# Altium schematic symbol library Capacitors.SchLib: 107 symbols
Pins are listed as number, name and electrical type; pins without a type are passive.

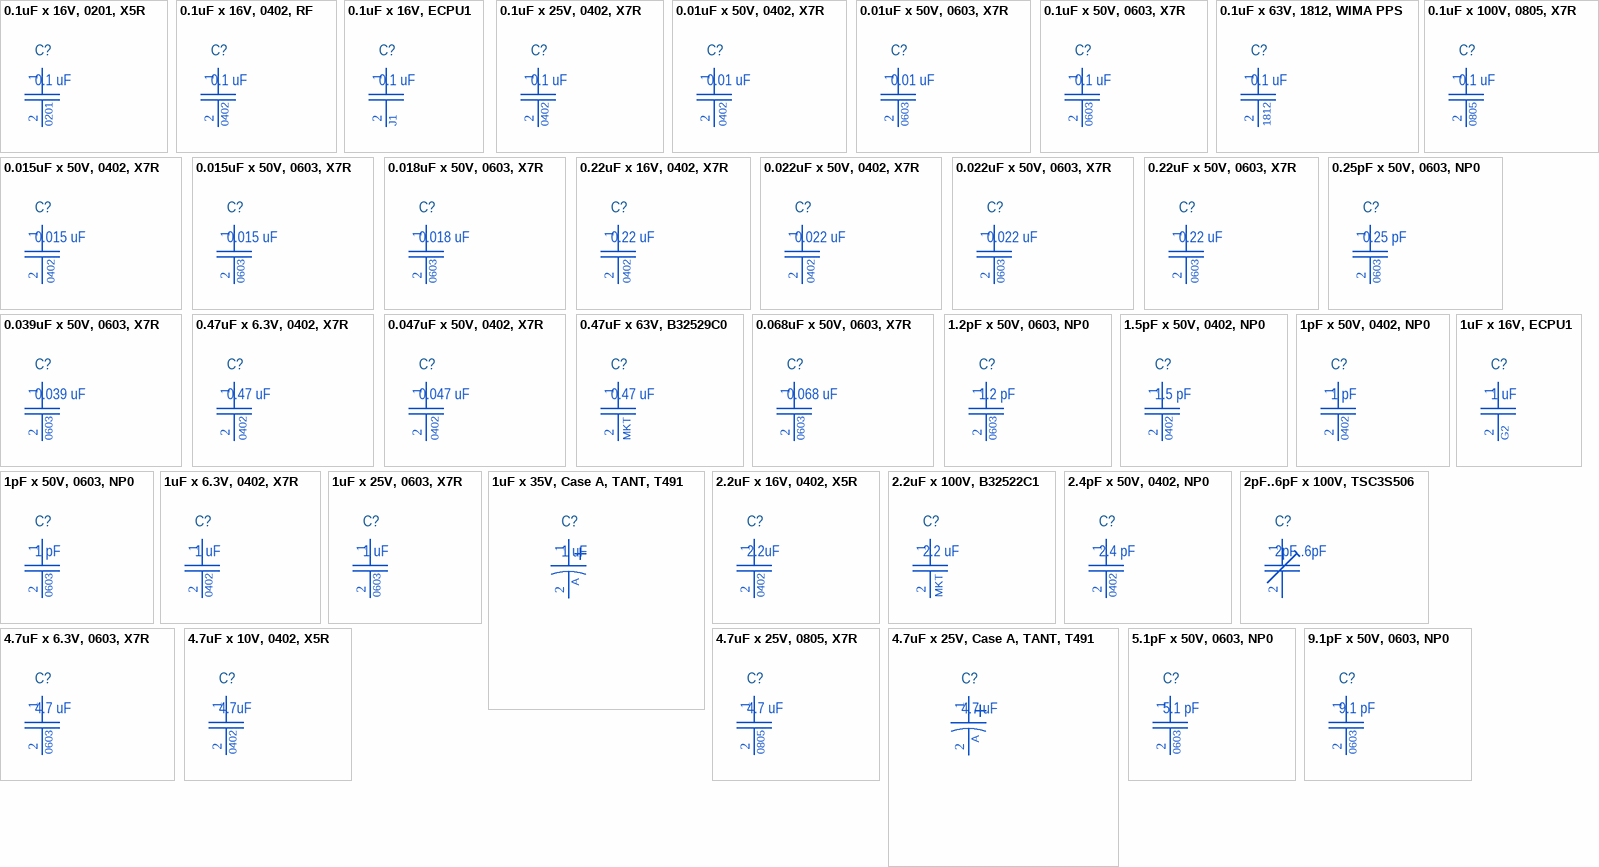
[diagram p0: symbols 0.1uF x 16V, 0201, X5R to 9.1pF x 50V, 0603, NP0]

## 0.1uF x 16V, 0201, X5R
designator C?, comment 0.1 uF  Package: 0201
CERCAP 0201 0.1UF 16V X5R 10%; PartNumber: CL03A104KO3NNNC; Manufacturer: Samsung; AltManufacturer1: CCTC; Alternative1: TCC0201X5R104K160ZT; ItemType: Capacitor; Value: 0.1 uF; Tolerance: ± 10 %; Voltage: 16V; Dielectric: X5R; ItemSubType: Ceramic 0201; Mounting: SMD
footprint C0201_H030_X5R (SMD020106X03MM)
pins: 1, 2

## 0.1uF x 16V, 0402, RF
designator C?, comment 0.1 uF  Package: 0402
RF CAP 0402 16kHz - 40 GHz 0.1UF 16VDC; PartNumber: 560L104YTT; Manufacturer: Kyocera AVX; Tolerance: -20 %, +25%; Voltage: 16V; ItemType: Capacitor; ItemSubType: RF Ceramic 0402; Value: 0.1 uF; Mounting: SMD
footprint ATC560L_H061 (SMD040210X061MM)
pins: 1, 2

## 0.1uF x 16V, ECPU1
designator C?, comment 0.1 uF  Package: J1
ECPU1 0.1UF 16V 20%; PartNumber: ECPU1C104MA5; Manufacturer: Panasonic; Dielectric: Plastic; ItemType: Capacitor; ItemSubType: Stacked Metallized Plastic; Value: 0.1 uF; Tolerance: ± 20 %; Voltage: 16V; Mounting: SMD
footprint ECPU_J1 (Stacked Metallized Plastic Film Chip Capacitor ECPU Series)
pins: 1, 2

## 0.1uF x 25V, 0402, X7R
designator C?, comment 0.1 uF  Package: 0402
CERCAP 0402 0.1UF 25V X7R 10%; PartNumber: CL05B104KA5NNNC; Manufacturer: Samsung; AltManufacturer1: CCTC; Alternative1: TCC0402X7R104K500AT; ItemType: Capacitor; Value: 0.1 uF; Tolerance: ± 10 %; Voltage: 25V; Dielectric: X7R; ItemSubType: Ceramic 0402; Mounting: SMD
footprint C0402_H050_X7R (SMD040210X05MM)
footprint C0402_H050_X7R_0.8 (SMD040210X05MM for BGA with 0.8mm pitch)
pins: 1, 2

## 0.01uF x 50V, 0402, X7R
designator C?, comment 0.01 uF  Package: 0402
CERCAP 0402 0.01UF 50V X7R 5%; PartNumber: CL05B103JB5NNNC; Manufacturer: Samsung; AltManufacturer1: CCTC; Alternative1: TCC0402X7R103J500AT; ItemType: Capacitor; Value: 0.01 uF; Tolerance: ± 5 %; Voltage: 50V; Dielectric: X7R; ItemSubType: Ceramic 0402; Mounting: SMD
footprint C0402_H050_X7R (SMD040210X05MM)
footprint C0402_H050_X7R_0.8 (SMD040210X05MM for BGA with 0.8mm pitch)
pins: 1, 2

## 0.01uF x 50V, 0603, X7R
designator C?, comment 0.01 uF  Package: 0603
CERCAP 0603 0.01UF 50V X7R 5%; PartNumber: CL10B103JB8NNNC; Manufacturer: Samsung; AltManufacturer1: CCTC; Alternative1: TCC0603COG103J500CT; ItemType: Capacitor; Value: 0.01 uF; Tolerance: ± 5 %; Voltage: 50V; Dielectric: X7R; ItemSubType: Ceramic 0603; Mounting: SMD
footprint C0603_H080_X7R (SMD060316X08MM)
pins: 1, 2

## 0.1uF x 50V, 0603, X7R
designator C?, comment 0.1 uF  Package: 0603
CERCAP 0603 0.1UF 50V X7R 10%; PartNumber: CL10B104KB8NNNC; Manufacturer: Samsung; AltManufacturer1: CCTC; Alternative1: TCC0603X7R104K500CT; ItemType: Capacitor; Value: 0.1 uF; Tolerance: ± 10 %; Voltage: 50V; Dielectric: X7R; ItemSubType: Ceramic 0603; Mounting: SMD
footprint C0603_H080_X7R (SMD060316X08MM)
pins: 1, 2

## 0.1uF x 63V, 1812, WIMA PPS
designator C?, comment 0.1 uF  Package: 1812
Metallized Polyphenylene-Sulphide Film Capacitor; PartNumber: SMDIC03100KA00KP00; Manufacturer: WIMA; Tolerance: ± 10 %; Voltage: 63V; Dielectric: PPS; Alternative1: SMDIC03100KA00MP00; Value: 0.1 uF; AltManufacturer1: WIMA; ItemType: Capacitor; ItemSubType: PPS; Mounting: SMD
footprint WIMA_PPS_1812 (WIMA Metallized Polyphenylene-Sulphide Capacitors, Size 1812, H = 3.5mm)
pins: 1, 2

## 0.1uF x 100V, 0805, X7R
designator C?, comment 0.1 uF  Package: 0805
CERCAP 0805 0.1UF 100V X7R 10%; PartNumber: CL21B104KCFNNNE; Manufacturer: Samsung; AltManufacturer1: CCTC; Alternative1: TCC0805X7R104K101DT; ItemType: Capacitor; Value: 0.1 uF; Tolerance: ± 10 %; Voltage: 100V; Dielectric: X7R; ItemSubType: Ceramic 0805; Mounting: SMD
footprint C0805_H125_X7R (SMD080512X20MM)
pins: 1, 2

## 0.015uF x 50V, 0402, X7R
designator C?, comment 0.015 uF  Package: 0402
CERCAP 0402 0.015UF 50V X7R 10%; PartNumber: CL05B153KB5VPNC; Manufacturer: Samsung; AltManufacturer1: CCTC; Alternative1: TCC0402X7R153K500AT; ItemType: Capacitor; Value: 0.015 uF; Tolerance: ± 10 %; Voltage: 50V; Dielectric: X7R; ItemSubType: Ceramic 0402; Mounting: SMD
footprint C0402_H050_X7R (SMD040210X05MM)
footprint C0402_H050_X7R_0.8 (SMD040210X05MM for BGA with 0.8mm pitch)
pins: 1, 2

## 0.015uF x 50V, 0603, X7R
designator C?, comment 0.015 uF  Package: 0603
CERCAP 0603 0.015UF 50V X7R 5%; PartNumber: CL10B153JB8NNNC; Manufacturer: Samsung; AltManufacturer1: Yageo; Alternative1: CC0603JRX7R9BB153; ItemType: Capacitor; Value: 0.015 uF; Tolerance: ± 5 %; Voltage: 50V; Dielectric: X7R; ItemSubType: Ceramic 0603; Mounting: SMD
footprint C0603_H080_X7R (SMD060316X08MM)
pins: 1, 2

## 0.018uF x 50V, 0603, X7R
designator C?, comment 0.018 uF  Package: 0603
CERCAP 0603 0.018UF 50V X7R 10%; PartNumber: CL10B183KB8NNNC; Manufacturer: Samsung; AltManufacturer1: CCTC; Alternative1: TCC0603X7R183K500CT; ItemType: Capacitor; Value: 0.018 uF; Tolerance: ± 10 %; Voltage: 50V; Dielectric: X7R; ItemSubType: Ceramic 0603; Mounting: SMD
footprint C0603_H080_X7R (SMD060316X08MM)
pins: 1, 2

## 0.22uF x 16V, 0402, X7R
designator C?, comment 0.22 uF  Package: 0402
CERCAP 0402 0.22UF 16V X7R 10%; PartNumber: CL05B224KO5NNNC; Manufacturer: Samsung; AltManufacturer1: CCTC; Alternative1: TCC0402X7R224K250AT; ItemType: Capacitor; Value: 0.22 uF; Tolerance: ± 10 %; Voltage: 16V; Dielectric: X7R; ItemSubType: Ceramic 0402; Mounting: SMD
footprint C0402_H050_X7R (SMD040210X05MM)
footprint C0402_H050_X7R_0.8 (SMD040210X05MM for BGA with 0.8mm pitch)
pins: 1, 2

## 0.022uF x 50V, 0402, X7R
designator C?, comment 0.022 uF  Package: 0402
CERCAP 0402 0.022UF 50V X7R 10%; PartNumber: CL05B223KB5NNNC; Manufacturer: Samsung; AltManufacturer1: CCTC; Alternative1: TCC0402X7R223K500AT; ItemType: Capacitor; Value: 0.022 uF; Tolerance: ± 10 %; Voltage: 50V; Dielectric: X7R; ItemSubType: Ceramic 0402; Mounting: SMD
footprint C0402_H050_X7R (SMD040210X05MM)
footprint C0402_H050_X7R_0.8 (SMD040210X05MM for BGA with 0.8mm pitch)
pins: 1, 2

## 0.022uF x 50V, 0603, X7R
designator C?, comment 0.022 uF  Package: 0603
CERCAP 0603 0.022UF 50V X7R 10%; PartNumber: CL10B223KB8NNNC; Manufacturer: Samsung; AltManufacturer1: CCTC; Alternative1: TCC0603X7R223K500CT; ItemType: Capacitor; Value: 0.022 uF; Tolerance: ± 10 %; Voltage: 50V; Dielectric: X7R; ItemSubType: Ceramic 0603; Mounting: SMD
footprint C0603_H080_X7R (SMD060316X08MM)
pins: 1, 2

## 0.22uF x 50V, 0603, X7R
designator C?, comment 0.22 uF  Package: 0603
CERCAP 0603 0.22UF 50V X7R 10%; PartNumber: CL10B224KB8NNNC; Manufacturer: Samsung; AltManufacturer1: CCTC; Alternative1: TCC0603X7R224K500CT; ItemType: Capacitor; Value: 0.22 uF; Tolerance: ± 10 %; Voltage: 50V; Dielectric: X7R; ItemSubType: Ceramic 0603; Mounting: SMD
footprint C0603_H080_X7R (SMD060316X08MM)
pins: 1, 2

## 0.25pF x 50V, 0603, NP0
designator C?, comment 0.25 pF  Package: 0603
CERCAP 0603 0.25PF 50V C0G/NP0 0.25pF; PartNumber: 0603CGR25C500NT; Manufacturer: FENGHUA; Dielectric: C0G(NP0); ItemType: Capacitor; Value: 0.25 pF; Tolerance: ± 0.25 pF; Voltage: 50V; ItemSubType: Ceramic 0603; Mounting: SMD
footprint C0603_H080_NP0 (SMD060316X08MM)
pins: 1, 2

## 0.039uF x 50V, 0603, X7R
designator C?, comment 0.039 uF  Package: 0603
CERCAP 0603 0.039UF 50V X7R 10%; PartNumber: CL10B393KB8NNNC; Manufacturer: Samsung; AltManufacturer1: CCTC; Alternative1: TCC0603X7R393K500CT; ItemType: Capacitor; Value: 0.039 uF; Tolerance: ± 10 %; Voltage: 50V; Dielectric: X7R; ItemSubType: Ceramic 0603; Mounting: SMD
footprint C0603_H080_X7R (SMD060316X08MM)
pins: 1, 2

## 0.47uF x 6.3V, 0402, X7R
designator C?, comment 0.47 uF  Package: 0402
CERCAP 0402 0.47UF 6.3V X7R 10%; PartNumber: CL05B474KQ5NNNC; Manufacturer: Samsung; AltManufacturer1: CCTC; Alternative1: TCC0402X7R474K100AT; ItemType: Capacitor; Value: 0.47 uF; Tolerance: ± 10 %; Voltage: 6.3V; Dielectric: X7R; ItemSubType: Ceramic 0402; Mounting: SMD
footprint C0402_H050_X7R (SMD040210X05MM)
footprint C0402_H050_X7R_0.8 (SMD040210X05MM for BGA with 0.8mm pitch)
pins: 1, 2

## 0.047uF x 50V, 0402, X7R
designator C?, comment 0.047 uF  Package: 0402
CERCAP 0402 0.047UF 50V X7R 10%; PartNumber: CL05B473KB5VPNC; Manufacturer: Samsung; AltManufacturer1: CCTC; Alternative1: TCC0402X7R473K500AT; ItemType: Capacitor; Value: 0.047 uF; Tolerance: ± 10 %; Voltage: 50V; Dielectric: X7R; ItemSubType: Ceramic 0402; Mounting: SMD
footprint C0402_H050_X7R (SMD040210X05MM)
footprint C0402_H050_X7R_0.8 (SMD040210X05MM for BGA with 0.8mm pitch)
pins: 1, 2

## 0.47uF x 63V, B32529C0
designator C?, comment 0.47 uF  Package: MKT
Metallized Polyester Film Capacitor 0.47UF 63V PET 5%; PartNumber: B32529C0474J000; Manufacturer: Epcos; ItemSubType: Polyester Box; Value: 0.47 uF; Tolerance: ± 5 %; Voltage: 63V; Dielectric: POLYESTER; ItemType: Capacitor; Mounting: THT
footprint B32529C0 (Epcos B32529, 3.5mmx8.0mmx7.3mm)
pins: 1, 2

## 0.068uF x 50V, 0603, X7R
designator C?, comment 0.068 uF  Package: 0603
CERCAP 0603 0.068UF 50V X7R 10%; PartNumber: CL10B683KB8NNNC; Manufacturer: Samsung; AltManufacturer1: CCTC; Alternative1: TCC0603X7R683K500CT; ItemType: Capacitor; Value: 0.068 uF; Tolerance: ± 10 %; Voltage: 50V; Dielectric: X7R; ItemSubType: Ceramic 0603; Mounting: SMD
footprint C0603_H080_X7R (SMD060316X08MM)
pins: 1, 2

## 1.2pF x 50V, 0603, NP0
designator C?, comment 1.2 pF  Package: 0603
CERCAP 0603 1.2PF 50V C0G/NP0 0.25PF; PartNumber: CL10C1R2CB8NNNC; Manufacturer: Samsung; Dielectric: C0G(NP0); ItemType: Capacitor; Value: 1.2 pF; Tolerance: ± 0.25 pF; Voltage: 50V; ItemSubType: Ceramic 0603; Mounting: SMD
footprint C0603_H080_NP0 (SMD060316X08MM)
pins: 1, 2

## 1.5pF x 50V, 0402, NP0
designator C?, comment 1.5 pF  Package: 0402
CERCAP 0402 1.5PF 50V C0G/NP0 0.1PF; PartNumber: CC0402BRNPO9BN1R5; Manufacturer: Yageo; AltManufacturer1: CCTC; Dielectric: C0G(NP0); Alternative1: TCC0402COG1R5B500AT; ItemType: Capacitor; Value: 1.5 pF; Tolerance: ± 0.1 pF; Voltage: 50V; ItemSubType: Ceramic 0402; Mounting: SMD
footprint C0402_H050_NP0 (SMD040210X05MM)
footprint C0402_H050_NP0_0.8 (SMD040210X05MM for BGA with 0.8mm pitch)
pins: 1, 2

## 1pF x 50V, 0402, NP0
designator C?, comment 1 pF  Package: 0402
CERCAP 0402 1PF 50V C0G/NP0 0.25PF; PartNumber: CC0402CRNPO9BN1R0; Manufacturer: Yageo; AltManufacturer1: CCTC; Dielectric: C0G(NP0); Alternative1: TCC0402COG1R0B500AT; ItemType: Capacitor; Value: 1 pF; Tolerance: ± 0.25 pF; Voltage: 50V; ItemSubType: Ceramic 0402; Mounting: SMD
footprint C0402_H050_NP0 (SMD040210X05MM)
footprint C0402_H050_NP0_0.8 (SMD040210X05MM for BGA with 0.8mm pitch)
pins: 1, 2

## 1pF x 50V, 0603, NP0
designator C?, comment 1 pF  Package: 0603
CERCAP 0603 1PF 50V C0G/NP0 0.1PF; PartNumber: CL10C010BB8NNNC; Manufacturer: Samsung; Dielectric: C0G(NP0); ItemType: Capacitor; Value: 1 pF; Tolerance: ± 0.1 pF; Voltage: 50V; ItemSubType: Ceramic 0603; Mounting: SMD
footprint C0603_H080_NP0 (SMD060316X08MM)
pins: 1, 2

## 1uF x 6.3V, 0402, X7R
designator C?, comment 1 uF  Package: 0402
CERCAP 0402 1UF 6.3V X7R 10%; PartNumber: CL05B105KQ5NQNC; Manufacturer: Samsung; AltManufacturer1: CCTC; Alternative1: TCC0402X7R105K6R3AT; ItemType: Capacitor; Value: 1 uF; Tolerance: ± 10 %; Voltage: 6.3V; Dielectric: X7R; ItemSubType: Ceramic 0402; Mounting: SMD
footprint C0402_H050_X7R (SMD040210X05MM)
footprint C0402_H050_X7R_0.8 (SMD040210X05MM for BGA with 0.8mm pitch)
pins: 1, 2

## 1uF x 16V, ECPU1
designator C?, comment 1 uF  Package: G2
ECPU1 1UF 16V 20%; PartNumber: ECPU1C105MA5; Manufacturer: Panasonic; Dielectric: Plastic; ItemType: Capacitor; ItemSubType: Stacked Metallized Plastic; Value: 1 uF; Tolerance: ± 20 %; Voltage: 16V; Mounting: SMD
footprint ECPU_G2 (Stacked Metallized Plastic Film Chip Capacitor ECPU Series)
pins: 1, 2

## 1uF x 25V, 0603, X7R
designator C?, comment 1 uF  Package: 0603
CERCAP 0603 1UF 25V X7R 10%; PartNumber: CL10B105KA8NNNC; Manufacturer: Samsung; AltManufacturer1: CCTC; Alternative1: TCC0603X7R105K500CT; ItemType: Capacitor; Value: 1 uF; Tolerance: ± 10 %; Voltage: 25V; Dielectric: X7R; ItemSubType: Ceramic 0603; Mounting: SMD
footprint C0603_H080_X7R (SMD060316X08MM)
pins: 1, 2

## 1uF x 35V, Case A, TANT, T491
designator C?, comment 1 uF  Package: A
Tantalum Solid Industrial Grade MnO2 Capacitors T491 Series 10UF 16V A 20%; PartNumber: T491A105K035AT; Manufacturer: Kemet; Tolerance: ± 10 %; Voltage: 35V; ESR: 7.5 Ohm; ItemSubType: Tantal Case A; Value: 1 uF; ItemType: Capacitor; Mounting: SMD
footprint CASEA_T491 (Capacitor Case A T491 Series KEMET)
pins: 1, 2

## 2.2uF x 16V, 0402, X5R
designator C?, comment 2.2uF  Package: 0402
CERCAP 0402 2.2UF 16V X5R 10%; PartNumber: CC0402KRX5R7BB225; Manufacturer: Yageo; AltManufacturer1: CCTC; Tolerance: ± 20 %; Alternative1: TCC0402X5R225K250AT; ItemType: Capacitor; Value: 2.2uF; Voltage: 16V; Dielectric: X5R; ItemSubType: Ceramic 0402; Mounting: SMD
footprint C0402_H050_X5R (SMD040210X05MM)
footprint C0402_H050_X5R_0.8 (SMD040210X05MM for BGA with 0.8mm pitch)
pins: 1, 2

## 2.2uF x 100V, B32522C1
designator C?, comment 2.2 uF  Package: MKT
Metallized Polyester Film Capacitor 2.2UF 100V PET 5%; PartNumber: B32522C1225J000; Manufacturer: Epcos; ItemSubType: Polyester Box; Value: 2.2 uF; Tolerance: ± 5 %; Voltage: 100V; Dielectric: POLYESTER; ItemType: Capacitor; Mounting: THT
footprint B32522C1 (Epcos B32522, 7.0mmx18.0mmx12.5mm)
pins: 1, 2

## 2.4pF x 50V, 0402, NP0
designator C?, comment 2.4 pF  Package: 0402
CERCAP 0402 2.4PF 50V C0G/NP0 0.25PF; PartNumber: CC0402CRNPO9BN2R4; Manufacturer: Yageo; AltManufacturer1: CCTC; Dielectric: C0G(NP0); Alternative1: TCC0402COG2R4B500AT; ItemType: Capacitor; Value: 2.4 pF; Tolerance: ± 0.25 pF; Voltage: 50V; ItemSubType: Ceramic 0402; Mounting: SMD
footprint C0402_H050_NP0 (SMD040210X05MM)
footprint C0402_H050_NP0_0.8 (SMD040210X05MM for BGA with 0.8mm pitch)
pins: 1, 2

## 2pF..6pF x 100V, TSC3S506
designator C?, comment 2pF..6pF
Ceramic Trimmer Capacitor - 3mm. 2pF - 6pF, 100V; PartNumber: TSC3S506T1R; Manufacturer: Suntan; Tolerance: ± 2 %; Dielectric: NP0; ItemSubType: Variable; Value: 2pF..6pF; Voltage: 100V; ItemType: Capacitor; Mounting: SMD
footprint TSC3S506 (Ceramic Trimmer Capacitor – 3mm)
pins: 1, 2

## 4.7uF x 6.3V, 0603, X7R
designator C?, comment 4.7 uF  Package: 0603
CERCAP 0603 4.7UF 6.3V X7R 10%; PartNumber: CL10B475KQ8NQNC; Manufacturer: Samsung; AltManufacturer1: CCTC; Alternative1: TCC0603X7R475K100CT; ItemType: Capacitor; Value: 4.7 uF; Tolerance: ± 10 %; Voltage: 6.3V; Dielectric: X7R; ItemSubType: Ceramic 0603; Mounting: SMD
footprint C0603_H080_X7R (SMD060316X08MM)
pins: 1, 2

## 4.7uF x 10V, 0402, X5R
designator C?, comment 4.7uF  Package: 0402
CERCAP 0402 4.7UF 10V X5R 10%; PartNumber: CC0402KRX5R6BB475; Manufacturer: Yageo; Voltage: 16V; ItemType: Capacitor; Value: 4.7uF; Tolerance: ± 10 %; Dielectric: X5R; ItemSubType: Ceramic 0402; Mounting: SMD
footprint C0402_H050_X5R (SMD040210X05MM)
footprint C0402_H050_X5R_0.8 (SMD040210X05MM for BGA with 0.8mm pitch)
pins: 1, 2

## 4.7uF x 25V, 0805, X7R
designator C?, comment 4.7 uF  Package: 0805
CERCAP 0805 4.7UF 25V X7R 10%; PartNumber: CL21B475KAFNNNE; Manufacturer: Samsung; AltManufacturer1: CCTC; Alternative1: TCC0805X7R475K500FT; ItemType: Capacitor; Value: 4.7 uF; Tolerance: ± 10 %; Voltage: 25V; Dielectric: X7R; ItemSubType: Ceramic 0805; Mounting: SMD
footprint C0805_H135_X7R (SMD080512X20MM)
pins: 1, 2

## 4.7uF x 25V, Case A, TANT, T491
designator C?, comment 4.7 uF  Package: A
Tantalum Solid Industrial Grade MnO2 Capacitors T491 Series 4.7UF 25V A 20%; PartNumber: T491A475M025AT; Manufacturer: Kemet; ESR: 6 Ohm; ItemSubType: Tantal Case A; Value: 4.7 uF; Tolerance: ± 20 %; Voltage: 25V; ItemType: Capacitor; Mounting: SMD
footprint CASEA_T491 (Capacitor Case A T491 Series KEMET)
pins: 1, 2

## 5.1pF x 50V, 0603, NP0
designator C?, comment 5.1 pF  Package: 0603
CERCAP 0603 5.1PF 50V C0G/NP0 0.25PF; PartNumber: CL10C5R1CB8NNNC; Manufacturer: Samsung; AltManufacturer1: CCTC; Dielectric: C0G(NP0); Alternative1: TCC0603COG5R1C500CT; ItemType: Capacitor; Value: 5.1 pF; Tolerance: ± 0.25 pF; Voltage: 50V; ItemSubType: Ceramic 0603; Mounting: SMD
footprint C0603_H080_NP0 (SMD060316X08MM)
pins: 1, 2

## 9.1pF x 50V, 0603, NP0
designator C?, comment 9.1 pF  Package: 0603
CERCAP 0603 9.1PF 50V C0G/NP0 0.25PF; PartNumber: CL10C9R1CB8NNNC; Manufacturer: Samsung; AltManufacturer1: CCTC; Dielectric: C0G(NP0); Alternative1: TCC0603COG9R1C500CT; ItemType: Capacitor; Value: 9.1 pF; Tolerance: ± 0.25 pF; Voltage: 50V; ItemSubType: Ceramic 0603; Mounting: SMD
footprint C0603_H080_NP0 (SMD060316X08MM)
pins: 1, 2

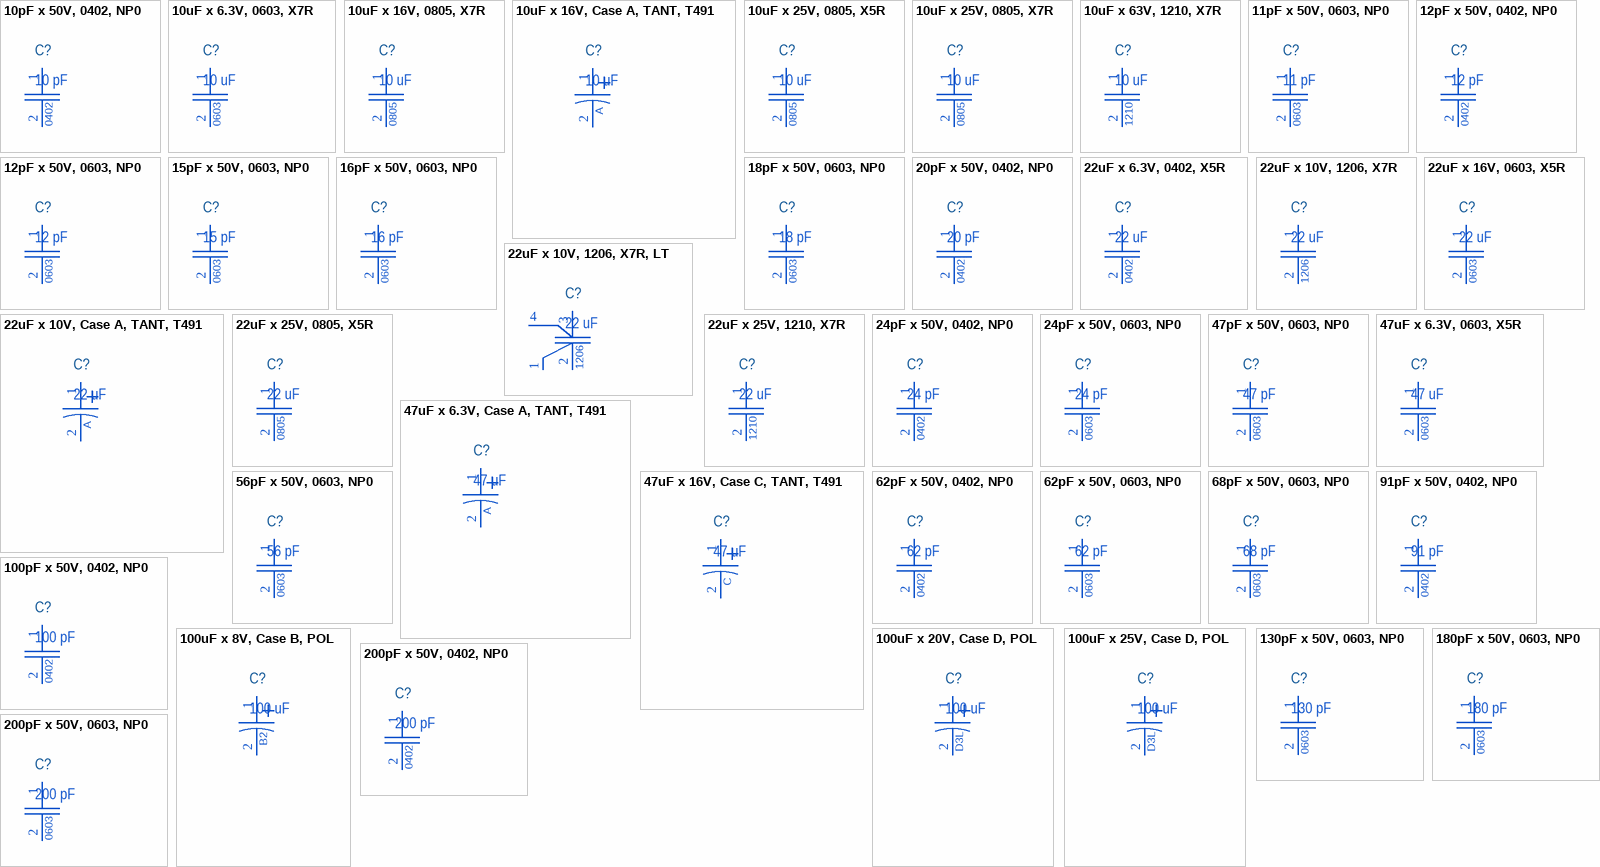
[diagram p1: symbols 10pF x 50V, 0402, NP0 to 200pF x 50V, 0603, NP0]

## 10pF x 50V, 0402, NP0
designator C?, comment 10 pF  Package: 0402
CERCAP 0402 10PF 50V C0G/NP0 5%; PartNumber: CL05C100JB5NNNC; Manufacturer: Samsung; AltManufacturer1: CCTC; Dielectric: C0G(NP0); Alternative1: TCC0402COG100F500AT; ItemType: Capacitor; Value: 10 pF; Tolerance: ± 5 %; Voltage: 50V; ItemSubType: Ceramic 0402; Mounting: SMD
footprint C0402_H050_NP0 (SMD040210X05MM)
footprint C0402_H050_NP0_0.8 (SMD040210X05MM for BGA with 0.8mm pitch)
pins: 1, 2

## 10uF x 6.3V, 0603, X7R
designator C?, comment 10 uF  Package: 0603
CERCAP 0603 10UF 6.3V X7R 20%; PartNumber: CL10B106MQ8NRNC; Manufacturer: Samsung; AltManufacturer1: CCTC; Alternative1: TCC0603X7R106M6R3CT; ItemType: Capacitor; Value: 10 uF; Tolerance: ± 20 %; Voltage: 6.3V; Dielectric: X7R; ItemSubType: Ceramic 0603; Mounting: SMD
footprint C0603_H080_X7R (SMD060316X08MM)
pins: 1, 2

## 10uF x 16V, 0805, X7R
designator C?, comment 10 uF  Package: 0805
CERCAP 0805 10UF 16V X7R 10%; PartNumber: CC0805KKX7R7BB106; Manufacturer: Yageo; AltManufacturer1: CCTC; Alternative1: TCC0805X7R106K250FT; ItemType: Capacitor; Value: 10 uF; Tolerance: ± 10 %; Voltage: 16V; Dielectric: X7R; ItemSubType: Ceramic 0805; Mounting: SMD
footprint C0805_H125_X7R (SMD080512X20MM)
pins: 1, 2

## 10uF x 16V, Case A, TANT, T491
designator C?, comment 10 uF  Package: A
Tantalum Solid Industrial Grade MnO2 Capacitors T491 Series 10UF 16V A 20%; PartNumber: T491A106M016AT; Manufacturer: Kemet; ESR: 3 Ohm; ItemSubType: Tantal Case A; Value: 10 uF; Tolerance: ± 20 %; Voltage: 16V; ItemType: Capacitor; Mounting: SMD
footprint CASEA_T491 (Capacitor Case A T491 Series KEMET)
pins: 1, 2

## 10uF x 25V, 0805, X5R
designator C?, comment 10 uF  Package: 0805
CERCAP 0805 10UF 25V X5R 10%; PartNumber: CL21A106KAYNNNE; Manufacturer: Samsung; AltManufacturer1: CCTC; Alternative1: TCC0805X7R106K250FT; ItemType: Capacitor; Value: 10 uF; Tolerance: ± 10 %; Voltage: 25V; Dielectric: X5R; ItemSubType: Ceramic 0805; Mounting: SMD
footprint C0805_H125_X5R (SMD080512X20MM)
pins: 1, 2

## 10uF x 25V, 0805, X7R
designator C?, comment 10 uF  Package: 0805
CERCAP 0805 10UF 25V X7R 10%; PartNumber: CL21B106KAQNNNE; Manufacturer: Yageo; AltManufacturer1: CCTC; Alternative1: TCC0805X7R106K250FT; ItemType: Capacitor; Value: 10 uF; Tolerance: ± 10 %; Voltage: 25V; Dielectric: X7R; ItemSubType: Ceramic 0805; Mounting: SMD
footprint C0805_H125_X7R (SMD080512X20MM)
pins: 1, 2

## 10uF x 63V, 1210, X7R
designator C?, comment 10 uF  Package: 1210
CERCAP 1210 10UF 63V X7R 10%; PartNumber: GRM32ER71J106KA12L; Manufacturer: Murata; AltManufacturer1: CCTC; Alternative1: TCC1210X7R106K630MT; ItemType: Capacitor; Value: 10 uF; Tolerance: ± 10 %; Voltage: 63V; Dielectric: X7R; ItemSubType: Ceramic 1210; Mounting: SMD
footprint C1210_H250_X7R (SMD121032X25MM)
pins: 1, 2

## 11pF x 50V, 0603, NP0
designator C?, comment 11 pF  Package: 0603
CERCAP 0603 11PF 50V C0G/NP0 5%; PartNumber: CL10C110JB8NNNC; Manufacturer: Samsung; AltManufacturer1: CCTC; Dielectric: C0G(NP0); Alternative1: TCC0603COG110J500CT; ItemType: Capacitor; Value: 11 pF; Tolerance: ± 5 %; Voltage: 50V; ItemSubType: Ceramic 0603; Mounting: SMD
footprint C0603_H080_NP0 (SMD060316X08MM)
pins: 1, 2

## 12pF x 50V, 0402, NP0
designator C?, comment 12 pF  Package: 0402
CERCAP 0402 12PF 50V C0G/NP0 5%; PartNumber: CL05C120JB5NNNC; Manufacturer: Samsung; AltManufacturer1: CCTC; Dielectric: C0G(NP0); Alternative1: TCC0402COG120G500AT; ItemType: Capacitor; Value: 12 pF; Tolerance: ± 5 %; Voltage: 50V; ItemSubType: Ceramic 0402; Mounting: SMD
footprint C0402_H050_NP0 (SMD040210X05MM)
footprint C0402_H050_NP0_0.8 (SMD040210X05MM for BGA with 0.8mm pitch)
pins: 1, 2

## 12pF x 50V, 0603, NP0
designator C?, comment 12 pF  Package: 0603
CERCAP 0603 12PF 50V C0G/NP0 5%; PartNumber: CL10C120JB8NNNC; Manufacturer: Samsung; AltManufacturer1: CCTC; Dielectric: C0G(NP0); Alternative1: TCC0603COG120J500CT; ItemType: Capacitor; Value: 12 pF; Tolerance: ± 5 %; Voltage: 50V; ItemSubType: Ceramic 0603; Mounting: SMD
footprint C0603_H080_NP0 (SMD060316X08MM)
pins: 1, 2

## 15pF x 50V, 0603, NP0
designator C?, comment 15 pF  Package: 0603
CERCAP 0603 15PF 50V C0G/NP0 5%; PartNumber: CL10C150JB8NNNC; Manufacturer: Samsung; AltManufacturer1: CCTC; Dielectric: C0G(NP0); Alternative1: TCC0603COG150J500CT; ItemType: Capacitor; Value: 15 pF; Tolerance: ± 5 %; Voltage: 50V; ItemSubType: Ceramic 0603; Mounting: SMD
footprint C0603_H080_NP0 (SMD060316X08MM)
pins: 1, 2

## 16pF x 50V, 0603, NP0
designator C?, comment 16 pF  Package: 0603
CERCAP 0603 16PF 50V C0G/NP0 5%; PartNumber: CL10C160JB8NFNC; Manufacturer: Samsung; AltManufacturer1: CCTC; Dielectric: C0G(NP0); Alternative1: TCC0603COG160J500CT; ItemType: Capacitor; Value: 16 pF; Tolerance: ± 5 %; Voltage: 50V; ItemSubType: Ceramic 0603; Mounting: SMD
footprint C0603_H080_NP0 (SMD060316X08MM)
pins: 1, 2

## 18pF x 50V, 0603, NP0
designator C?, comment 18 pF  Package: 0603
CERCAP 0603 18PF 50V C0G/NP0 5%; PartNumber: CL10C180JB8NNNC; Manufacturer: Samsung; Dielectric: C0G(NP0); ItemType: Capacitor; Value: 18 pF; Tolerance: ± 5 %; Voltage: 50V; ItemSubType: Ceramic 0603; Mounting: SMD
footprint C0603_H080_NP0 (SMD060316X08MM)
pins: 1, 2

## 20pF x 50V, 0402, NP0
designator C?, comment 20 pF  Package: 0402
CERCAP 0402 20PF 50V C0G/NP0 5%; PartNumber: CL05C200JB51PNC; Manufacturer: Samsung; AltManufacturer1: CCTC; Dielectric: C0G(NP0); Alternative1: TCC0402COG200J500AT; ItemType: Capacitor; Value: 20 pF; Tolerance: ± 5 %; Voltage: 50V; ItemSubType: Ceramic 0402; Mounting: SMD
footprint C0402_H050_NP0 (SMD040210X05MM)
footprint C0402_H050_NP0_0.8 (SMD040210X05MM for BGA with 0.8mm pitch)
pins: 1, 2

## 22uF x 6.3V, 0402, X5R
designator C?, comment 22 uF  Package: 0402
CERCAP 0402 22UF 6.3V X5R 20%; PartNumber: CL05A226MQ5QUNC; Manufacturer: Samsung; AltManufacturer1: CCTC; Alternative1: TCC0402X5R226M6R3AT; ItemType: Capacitor; Value: 22 uF; Tolerance: ± 20 %; Voltage: 6.3V; Dielectric: X5R; ItemSubType: Ceramic 0402; Mounting: SMD
footprint C0402_H050_X5R (SMD040210X05MM)
footprint C0402_H050_X5R_0.8 (SMD040210X05MM for BGA with 0.8mm pitch)
pins: 1, 2

## 22uF x 10V, 1206, X7R
designator C?, comment 22 uF  Package: 1206
CERCAP 1206 22UF 10V X7R 10%; PartNumber: CL31B226KPHNFNE; Manufacturer: Samsung; AltManufacturer1: CCTC; Alternative1: TCC1206X7R226K100HT; ItemType: Capacitor; Value: 22 uF; Tolerance: ± 10 %; Voltage: 10V; Dielectric: X7R; ItemSubType: Ceramic 1206; Mounting: SMD
footprint C1206_H180_X7R (SMD120632X16MM)
pins: 1, 2

## 22uF x 10V, 1206, X7R, LT
designator C?, comment 22 uF  Package: 1206
CERCAP 1206 22UF 10V X7R 10% Kelvin connection; PartNumber: CL31B226KPHNFNE; Manufacturer: Samsung; AltManufacturer1: CCTC; Alternative1: TCC1206X7R226K100HT; ItemType: Capacitor; Value: 22 uF; Tolerance: ± 10 %; Voltage: 10V; Dielectric: X7R; ItemSubType: Ceramic 1206; Mounting: SMD
footprint C1206_H180_X7R_LT (SMD120632X16MM)
pins: 1, 2, 3, 4

## 22uF x 10V, Case A, TANT, T491
designator C?, comment 22 uF  Package: A
Tantalum Solid Industrial Grade MnO2 Capacitors T491 Series 22UF 10V A 20%; PartNumber: T491A226M010AT; Manufacturer: Kemet; ESR: 3.2 Ohm; ItemSubType: Tantal Case A; Value: 22 uF; Tolerance: ± 20 %; Voltage: 10V; ItemType: Capacitor; Mounting: SMD
footprint CASEA_T491 (Capacitor Case A T491 Series KEMET)
pins: 1, 2

## 22uF x 16V, 0603, X5R
designator C?, comment 22 uF  Package: 0603
CERCAP 0603 22UF 16V X5R 20%; PartNumber: CL10A226MO7JZNC; Manufacturer: Samsung; AltManufacturer1: CCTC; Alternative1: TCC0603X5R226M160CT; ItemType: Capacitor; Value: 22 uF; Tolerance: ± 20 %; Voltage: 16V; Dielectric: X5R; ItemSubType: Ceramic 0603; Mounting: SMD
footprint C0603_H080_X5R (SMD060316X08MM)
pins: 1, 2

## 22uF x 25V, 0805, X5R
designator C?, comment 22 uF  Package: 0805
CERCAP 0805 22UF 25V X5R 20%; PartNumber: GRM21BR61E226ME44L; Manufacturer: Murata; AltManufacturer1: CCTC; Alternative1: TCC0805X5R226M250FT; ItemType: Capacitor; Value: 22 uF; Tolerance: ± 20 %; Voltage: 25V; Dielectric: X5R; ItemSubType: Ceramic 0805; Mounting: SMD
footprint C0805_H125_X5R (SMD080512X20MM)
pins: 1, 2

## 22uF x 25V, 1210, X7R
designator C?, comment 22 uF  Package: 1210
CERCAP 1210 22UF 25V X7R 10%; PartNumber: CL32B226KAJNNNE; Manufacturer: Samsung; AltManufacturer1: CCTC; Alternative1: TCC1210X7R226K250MT; ItemType: Capacitor; Value: 22 uF; Tolerance: ± 10 %; Voltage: 25V; Dielectric: X7R; ItemSubType: Ceramic 1210; Mounting: SMD
footprint C1210_H250_X7R (SMD121032X25MM)
pins: 1, 2

## 24pF x 50V, 0402, NP0
designator C?, comment 24 pF  Package: 0402
CERCAP 0402 24PF 50V C0G/NP0 5%; PartNumber: CL05C240JB5NNNC; Manufacturer: Samsung; AltManufacturer1: CCTC; Dielectric: C0G(NP0); Alternative1: TCC0402COG240J500AT; ItemType: Capacitor; Value: 24 pF; Tolerance: ± 5 %; Voltage: 50V; ItemSubType: Ceramic 0402; Mounting: SMD
footprint C0402_H050_NP0 (SMD040210X05MM)
footprint C0402_H050_NP0_0.8 (SMD040210X05MM for BGA with 0.8mm pitch)
pins: 1, 2

## 24pF x 50V, 0603, NP0
designator C?, comment 24 pF  Package: 0603
CERCAP 0603 24PF 50V C0G/NP0 5%; PartNumber: CL10C240JB8NNNC; Manufacturer: Samsung; AltManufacturer1: CCTC; Dielectric: C0G(NP0); Alternative1: TCC0603COG240J500CT; ItemType: Capacitor; Value: 24 pF; Tolerance: ± 5 %; Voltage: 50V; ItemSubType: Ceramic 0603; Mounting: SMD
footprint C0603_H080_NP0 (SMD060316X08MM)
pins: 1, 2

## 47pF x 50V, 0603, NP0
designator C?, comment 47 pF  Package: 0603
CERCAP 0603 47PF 50V C0G/NP0 5%; PartNumber: CL10C470JB8NNNC; Manufacturer: Samsung; AltManufacturer1: CCTC; Dielectric: C0G(NP0); Alternative1: TCC0603COG470J500CT; ItemType: Capacitor; Value: 47 pF; Tolerance: ± 5 %; Voltage: 50V; ItemSubType: Ceramic 0603; Mounting: SMD
footprint C0603_H080_NP0 (SMD060316X08MM)
pins: 1, 2

## 47uF x 6.3V, 0603, X5R
designator C?, comment 47 uF  Package: 0603
CERCAP 0603 47UF 6.3V X5R 20%; PartNumber: GRM188R60J476ME15D; Manufacturer: Murata; AltManufacturer1: CCTC; Alternative1: TCC0603X5R476M6R3CT; ItemType: Capacitor; Value: 47 uF; Tolerance: ± 20 %; Voltage: 6.3V; Dielectric: X5R; ItemSubType: Ceramic 0603; Mounting: SMD
footprint C0603_H080_X5R (SMD060316X08MM)
pins: 1, 2

## 47uF x 6.3V, Case A, TANT, T491
designator C?, comment 47 uF  Package: A
Tantalum Solid Industrial Grade MnO2 Capacitors T491 Series 47UF 6.3V A 20%; PartNumber: T491A476M006AT; Manufacturer: Kemet; ESR: 3.5 Ohm; ItemSubType: Tantal Case A; Value: 47 uF; Tolerance: ± 20 %; Voltage: 6.3V; ItemType: Capacitor; Mounting: SMD
footprint CASEA_T491 (Capacitor Case A T491 Series KEMET)
pins: 1, 2

## 47uF x 16V, Case C, TANT, T491
designator C?, comment 47 uF  Package: C
Tantalum Solid Industrial Grade MnO2 Capacitors T491 Series 47UF 16V C 20%; PartNumber: T491C476K016AT; Manufacturer: Kemet; ESR: 1 Ohm; ItemSubType: Tantal Case C; Value: 47 uF; Tolerance: ± 20 %; Voltage: 16V; ItemType: Capacitor; Mounting: SMD
footprint CASEC_T491 (Capacitor Case C T491 Series KEMET)
pins: 1, 2

## 56pF x 50V, 0603, NP0
designator C?, comment 56 pF  Package: 0603
CERCAP 0603 56PF 50V C0G/NP0 5%; PartNumber: CL10C560JB8NNNC; Manufacturer: Samsung; AltManufacturer1: CCTC; Dielectric: C0G(NP0); Alternative1: TCC0603COG560J500CT; ItemType: Capacitor; Value: 56 pF; Tolerance: ± 5 %; Voltage: 50V; ItemSubType: Ceramic 0603; Mounting: SMD
footprint C0603_H080_NP0 (SMD060316X08MM)
pins: 1, 2

## 62pF x 50V, 0402, NP0
designator C?, comment 62 pF  Package: 0402
CERCAP 0402 62PF 50V C0G/NP0 5%; PartNumber: CL05C620JB5NNNC; Manufacturer: Samsung; AltManufacturer1: CCTC; Dielectric: C0G(NP0); Alternative1: TCC0402COG620J500AT; ItemType: Capacitor; Value: 62 pF; Tolerance: ± 5 %; Voltage: 50V; ItemSubType: Ceramic 0402; Mounting: SMD
footprint C0402_H050_NP0 (SMD040210X05MM)
footprint C0402_H050_NP0_0.8 (SMD040210X05MM for BGA with 0.8mm pitch)
pins: 1, 2

## 62pF x 50V, 0603, NP0
designator C?, comment 62 pF  Package: 0603
CERCAP 0603 62PF 50V C0G/NP0 5%; PartNumber: CL10C620JB8NNNC; Manufacturer: Samsung; AltManufacturer1: CCTC; Dielectric: C0G(NP0); Alternative1: TCC0603COG620J500CT; ItemType: Capacitor; Value: 62 pF; Tolerance: ± 5 %; Voltage: 50V; ItemSubType: Ceramic 0603; Mounting: SMD
footprint C0603_H080_NP0 (SMD060316X08MM)
pins: 1, 2

## 68pF x 50V, 0603, NP0
designator C?, comment 68 pF  Package: 0603
CERCAP 0603 68PF 50V C0G/NP0 5%; PartNumber: CL10C680JB8NNNC; Manufacturer: Samsung; AltManufacturer1: CCTC; Dielectric: C0G(NP0); Alternative1: TCC0603COG680J500CT; ItemType: Capacitor; Value: 68 pF; Tolerance: ± 5 %; Voltage: 50V; ItemSubType: Ceramic 0603; Mounting: SMD
footprint C0603_H080_NP0 (SMD060316X08MM)
pins: 1, 2

## 91pF x 50V, 0402, NP0
designator C?, comment 91 pF  Package: 0402
CERCAP 0402 91PF 50V C0G/NP0 5%; PartNumber: CL05C910JB5NNNC; Manufacturer: Samsung; AltManufacturer1: CCTC; Dielectric: C0G(NP0); Alternative1: TCC0402COG910J500AT; ItemType: Capacitor; Value: 91 pF; Tolerance: ± 5 %; Voltage: 50V; ItemSubType: Ceramic 0402; Mounting: SMD
footprint C0402_H050_NP0 (SMD040210X05MM)
footprint C0402_H050_NP0_0.8 (SMD040210X05MM for BGA with 0.8mm pitch)
pins: 1, 2

## 100pF x 50V, 0402, NP0
designator C?, comment 100 pF  Package: 0402
CERCAP 0402 100PF 50V C0G/NP0 5%; PartNumber: CL05C101JB5NNNC; Manufacturer: Samsung; AltManufacturer1: CCTC; Dielectric: C0G(NP0); Alternative1: TCC0402C0G101J500AT; ItemType: Capacitor; Value: 100 pF; Tolerance: ± 5 %; Voltage: 50V; ItemSubType: Ceramic 0402; Mounting: SMD
footprint C0402_H050_NP0 (SMD040210X05MM)
footprint C0402_H050_NP0_0.8 (SMD040210X05MM for BGA with 0.8mm pitch)
pins: 1, 2

## 100uF x 8V, Case B, POL
designator C?, comment 100 uF  Package: B2
Polymer Tantalum Solid Capacitors TPE Series; PartNumber: 8TPE100MAZB; Manufacturer: Panasonic; Tolerance: ± 20 %; Voltage: 8V; Marking: A8; ESR: 35 mOhm; ItemSubType: Polymer Case B; Value: 100 uF; ItemType: Capacitor; Mounting: SMD
footprint CASEB_TPE_B2 (Capacitor TPE-Series B2 Package)
pins: 1, 2

## 100uF x 20V, Case D, POL
designator C?, comment 100 uF  Package: D3L
Polymer Tantalum Solid Capacitors TQC Series; PartNumber: 20TQC100MYF; Manufacturer: Panasonic; Tolerance: ± 20 %; Voltage: 20V; ESR: 55 mOhm; ItemSubType: Polymer Case D; Value: 100 uF; ItemType: Capacitor; Mounting: SMD
footprint CASED_TQC_D3L (Capacitor TQC-Series D3L Package)
pins: 1, 2

## 100uF x 25V, Case D, POL
designator C?, comment 100 uF  Package: D3L
Polymer Tantalum Solid Capacitors TQC Series; PartNumber: 25TQC100MD3; Manufacturer: Panasonic; Tolerance: ± 20 %; Voltage: 25V; ESR: 60 mOhm; ItemSubType: Polymer Case D; Value: 100 uF; ItemType: Capacitor; Mounting: SMD
footprint CASED_TQC_D3L (Capacitor TQC-Series D3L Package)
pins: 1, 2

## 130pF x 50V, 0603, NP0
designator C?, comment 130 pF  Package: 0603
CERCAP 0603 130PF 50V C0G/NP0 5%; PartNumber: CL10C131JB8NNNC; Manufacturer: Samsung; AltManufacturer1: Yageo; Dielectric: C0G(NP0); Alternative1: CC0603JRNPO9BN131; ItemType: Capacitor; Value: 130 pF; Tolerance: ± 5 %; Voltage: 50V; ItemSubType: Ceramic 0603; Mounting: SMD
footprint C0603_H080_NP0 (SMD060316X08MM)
pins: 1, 2

## 180pF x 50V, 0603, NP0
designator C?, comment 180 pF  Package: 0603
CERCAP 0603 180PF 50V C0G/NP0 5%; PartNumber: CL10C181JB8NNNC; Manufacturer: Samsung; AltManufacturer1: CCTC; Dielectric: C0G(NP0); Alternative1: TCC0603COG181J500CT; ItemType: Capacitor; Value: 180 pF; Tolerance: ± 5 %; Voltage: 50V; ItemSubType: Ceramic 0603; Mounting: SMD
footprint C0603_H080_NP0 (SMD060316X08MM)
pins: 1, 2

## 200pF x 50V, 0402, NP0
designator C?, comment 200 pF  Package: 0402
CERCAP 0402 200PF 50V C0G/NP0 5%; PartNumber: CL05C201JB5NNNC; Manufacturer: Samsung; AltManufacturer1: CCTC; Dielectric: C0G(NP0); Alternative1: TCC0402COG201J500AT; ItemType: Capacitor; Value: 200 pF; Tolerance: ± 5 %; Voltage: 50V; ItemSubType: Ceramic 0402; Mounting: SMD
footprint C0402_H050_NP0 (SMD040210X05MM)
footprint C0402_H050_NP0_0.8 (SMD040210X05MM for BGA with 0.8mm pitch)
pins: 1, 2

## 200pF x 50V, 0603, NP0
designator C?, comment 200 pF  Package: 0603
CERCAP 0603 200PF 50V C0G/NP0 5%; PartNumber: CL10C201JB8NNNC; Manufacturer: Samsung; AltManufacturer1: CCTC; Dielectric: C0G(NP0); Alternative1: TCC0603COG201J500CT; ItemType: Capacitor; Value: 200 pF; Tolerance: ± 5 %; Voltage: 50V; ItemSubType: Ceramic 0603; Mounting: SMD
footprint C0603_H080_NP0 (SMD060316X08MM)
pins: 1, 2

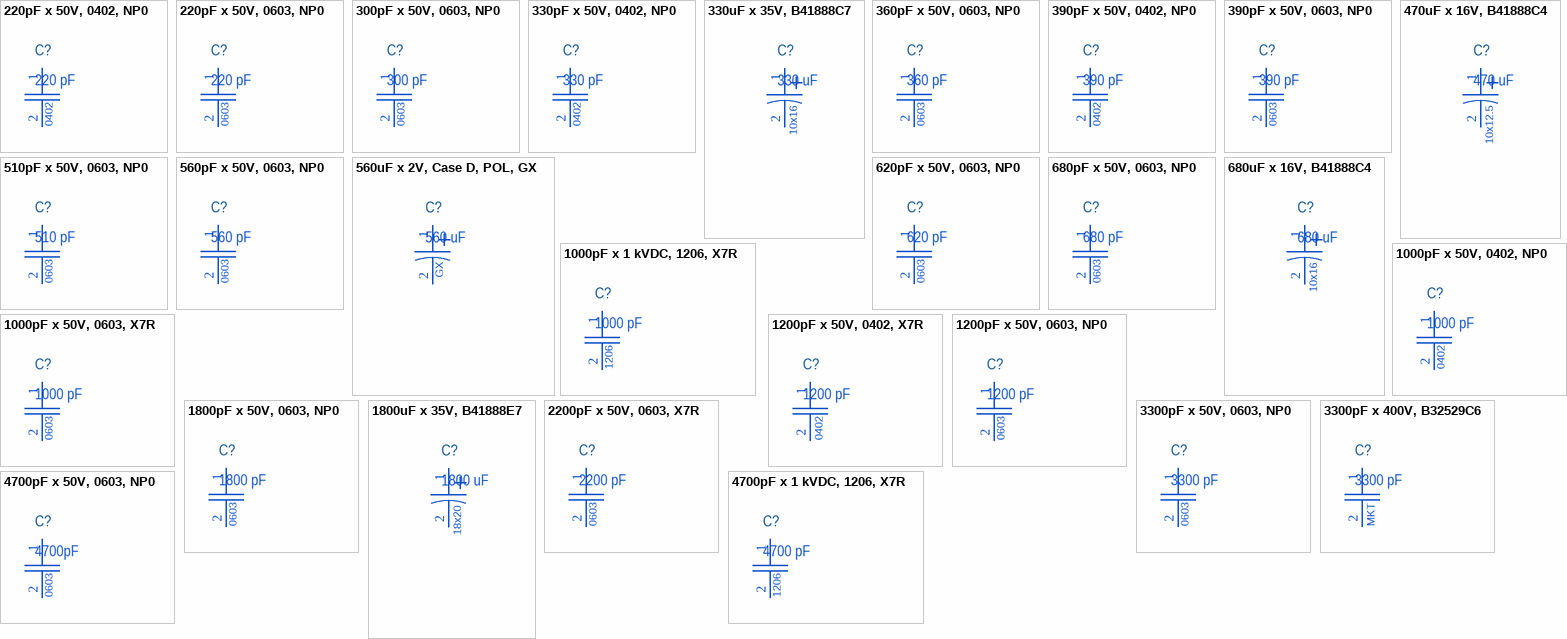
[diagram p2: symbols 220pF x 50V, 0402, NP0 to 4700pF x 50V, 0603, NP0]

## 220pF x 50V, 0402, NP0
designator C?, comment 220 pF  Package: 0402
CERCAP 0402 220PF 50V C0G/NP0 5%; PartNumber: CL05C221JB5NNNC; Manufacturer: Samsung; AltManufacturer1: CCTC; Dielectric: C0G(NP0); Alternative1: TCC0402COG221J500AT; ItemType: Capacitor; Value: 220 pF; Tolerance: ± 5 %; Voltage: 50V; ItemSubType: Ceramic 0402; Mounting: SMD
footprint C0402_H050_NP0 (SMD040210X05MM)
footprint C0402_H050_NP0_0.8 (SMD040210X05MM for BGA with 0.8mm pitch)
pins: 1, 2

## 220pF x 50V, 0603, NP0
designator C?, comment 220 pF  Package: 0603
CERCAP 0603 220PF 50V C0G/NP0 5%; PartNumber: CL10C221JB8NNNC; Manufacturer: Samsung; AltManufacturer1: CCTC; Dielectric: C0G(NP0); Alternative1: TCC0603COG221J500CT; ItemType: Capacitor; Value: 220 pF; Tolerance: ± 5 %; Voltage: 50V; ItemSubType: Ceramic 0603; Mounting: SMD
footprint C0603_H080_NP0 (SMD060316X08MM)
pins: 1, 2

## 300pF x 50V, 0603, NP0
designator C?, comment 300 pF  Package: 0603
CERCAP 0603 300PF 50V C0G/NP0 5%; PartNumber: CL10C301JB8NNNC; Manufacturer: Samsung; AltManufacturer1: CCTC; Dielectric: C0G(NP0); Alternative1: TCC0603COG301J500CT; ItemType: Capacitor; Value: 300 pF; Tolerance: ± 5 %; Voltage: 50V; ItemSubType: Ceramic 0603; Mounting: SMD
footprint C0603_H080_NP0 (SMD060316X08MM)
pins: 1, 2

## 330pF x 50V, 0402, NP0
designator C?, comment 330 pF  Package: 0402
CERCAP 0402 330PF 50V C0G/NP0 5%; PartNumber: CL05C331JB5NNNC; Manufacturer: Samsung; AltManufacturer1: CCTC; Dielectric: C0G(NP0); Alternative1: TCC0402COG331J500AT; ItemType: Capacitor; Value: 330 pF; Tolerance: ± 5 %; Voltage: 50V; ItemSubType: Ceramic 0402; Mounting: SMD
footprint C0402_H050_NP0 (SMD040210X05MM)
footprint C0402_H050_NP0_0.8 (SMD040210X05MM for BGA with 0.8mm pitch)
pins: 1, 2

## 330uF x 35V, B41888C7
designator C?, comment 330 uF  Package: 10x16
Aluminum electrolytic capacitors EPCOS B41888 Series; PartNumber: B41888C7337M000; AltManufacturer1: Panasonic; Tolerance: ± 20 %; Voltage: 35V; Alternative1: EEUEB1V331B; Value: 330 uF; Manufacturer: Epcos; ItemType: Capacitor; ItemSubType: Aluminum; Mounting: THT
footprint B41888C7337 (Epcos B41888, d=10mm, h=16.0mm, space 5mm)
pins: 1, 2

## 360pF x 50V, 0603, NP0
designator C?, comment 360 pF  Package: 0603
CERCAP 0603 360PF 50V C0G/NP0 5%; PartNumber: CL10C361JB8NNNC; Manufacturer: Samsung; AltManufacturer1: CCTC; Dielectric: C0G(NP0); Alternative1: TCC0603COG361J500CT; ItemType: Capacitor; Value: 360 pF; Tolerance: ± 5 %; Voltage: 50V; ItemSubType: Ceramic 0603; Mounting: SMD
footprint C0603_H080_NP0 (SMD060316X08MM)
pins: 1, 2

## 390pF x 50V, 0402, NP0
designator C?, comment 390 pF  Package: 0402
CERCAP 0402 390PF 50V C0G/NP0 5%; PartNumber: CL05C391JB5NNNC; Manufacturer: Samsung; AltManufacturer1: CCTC; Dielectric: C0G(NP0); Alternative1: TCC0402COG391J500AT; ItemType: Capacitor; Value: 390 pF; Tolerance: ± 5 %; Voltage: 50V; ItemSubType: Ceramic 0402; Mounting: SMD
footprint C0402_H050_NP0 (SMD040210X05MM)
footprint C0402_H050_NP0_0.8 (SMD040210X05MM for BGA with 0.8mm pitch)
pins: 1, 2

## 390pF x 50V, 0603, NP0
designator C?, comment 390 pF  Package: 0603
CERCAP 0603 390PF 50V C0G/NP0 5%; PartNumber: CL10C391JB8NNNC; Manufacturer: Samsung; AltManufacturer1: CCTC; Dielectric: C0G(NP0); Alternative1: TCC0603COG391J500CT; ItemType: Capacitor; Value: 390 pF; Tolerance: ± 5 %; Voltage: 50V; ItemSubType: Ceramic 0603; Mounting: SMD
footprint C0603_H080_NP0 (SMD060316X08MM)
pins: 1, 2

## 470uF x 16V, B41888C4
designator C?, comment 470 uF  Package: 10x12.5
Aluminum electrolytic capacitors EPCOS B41888 Series; PartNumber: B41888C4477M000; AltManufacturer1: Panasonic; Tolerance: ± 20 %; Voltage: 16V; Alternative1: EEUEB1E471B; Value: 470 uF; Manufacturer: Epcos; ItemType: Capacitor; ItemSubType: Aluminum; Mounting: THT
footprint B41888C4477 (Epcos B41888, d=10mm, h=12.5mm, space 5mm)
pins: 1, 2

## 510pF x 50V, 0603, NP0
designator C?, comment 510 pF  Package: 0603
CERCAP 0603 510PF 50V C0G/NP0 5%; PartNumber: CL10C511JB8NNNC; Manufacturer: Samsung; AltManufacturer1: CCTC; Dielectric: C0G(NP0); Alternative1: TCC0603COG511J500CT; ItemType: Capacitor; Value: 510 pF; Tolerance: ± 5 %; Voltage: 50V; ItemSubType: Ceramic 0603; Mounting: SMD
footprint C0603_H080_NP0 (SMD060316X08MM)
pins: 1, 2

## 560pF x 50V, 0603, NP0
designator C?, comment 560 pF  Package: 0603
CERCAP 0603 560PF 50V C0G/NP0 5%; PartNumber: CL10C561JB8NNNC; Manufacturer: Samsung; AltManufacturer1: CCTC; Dielectric: C0G(NP0); Alternative1: TCC0603COG561J500CT; ItemType: Capacitor; Value: 560 pF; Tolerance: ± 5 %; Voltage: 50V; ItemSubType: Ceramic 0603; Mounting: SMD
footprint C0603_H080_NP0 (SMD060316X08MM)
pins: 1, 2

## 560uF x 2V, Case D, POL, GX
designator C?, comment 560 uF  Package: GX
Conductive Polymer Electrolytic Capacitors GX Series; PartNumber: EEFGX0D561R; Manufacturer: Panasonic; Tolerance: ± 20 %; Voltage: 2V; ESR: 3 mOhm; ItemSubType: Polymer Case D; Value: 560 uF; ItemType: Capacitor; Mounting: SMD
footprint CASED_GX_561 (Capacitor GX-Series)
pins: 1, 2

## 620pF x 50V, 0603, NP0
designator C?, comment 620 pF  Package: 0603
CERCAP 0603 620PF 50V C0G/NP0 5%; PartNumber: CL10C621JB8NNNC; Manufacturer: Samsung; Dielectric: C0G(NP0); ItemType: Capacitor; Value: 620 pF; Tolerance: ± 5 %; Voltage: 50V; ItemSubType: Ceramic 0603; Mounting: SMD
footprint C0603_H080_NP0 (SMD060316X08MM)
pins: 1, 2

## 680pF x 50V, 0603, NP0
designator C?, comment 680 pF  Package: 0603
CERCAP 0603 680PF 50V C0G/NP0 5%; PartNumber: CL10C681JB8NNNC; Manufacturer: Samsung; AltManufacturer1: CCTC; Dielectric: C0G(NP0); Alternative1: TCC0603COG681J500CT; ItemType: Capacitor; Value: 680 pF; Tolerance: ± 5 %; Voltage: 50V; ItemSubType: Ceramic 0603; Mounting: SMD
footprint C0603_H080_NP0 (SMD060316X08MM)
pins: 1, 2

## 680uF x 16V, B41888C4
designator C?, comment 680 uF  Package: 10x16
Aluminum electrolytic capacitors EPCOS B41888 Series; PartNumber: B41888C4687M000; AltManufacturer1: Panasonic; Tolerance: ± 20 %; Voltage: 16V; Alternative1: EEUFR1V681B; Value: 680 uF; Manufacturer: Epcos; ItemType: Capacitor; ItemSubType: Aluminum; Mounting: THT
footprint B41888C4687 (Epcos B41888, d=10mm, h=16.0mm, space 5mm)
pins: 1, 2

## 1000pF x 1 kVDC, 1206, X7R
designator C?, comment 1000 pF  Package: 1206
CERCAP 1206 1000PF 1KV X7R 10%; PartNumber: GRM31BR73A102KW01L; Manufacturer: Murata; Voltage: 1 kVDC; ItemType: Capacitor; Value: 1000 pF; Tolerance: ± 10 %; Dielectric: X7R; ItemSubType: Ceramic 1206; Mounting: SMD
footprint C1206_H125_X7R (SMD120632X16MM)
pins: 1, 2

## 1000pF x 50V, 0402, NP0
designator C?, comment 1000 pF  Package: 0402
CERCAP 0402 1000PF 50V C0G/NP0 5%; PartNumber: CL05C102JB5NNNC; Manufacturer: Samsung; AltManufacturer1: CCTC; Dielectric: C0G(NP0); Alternative1: TCC0402COG102J500AT; ItemType: Capacitor; Value: 1000 pF; Tolerance: ± 5 %; Voltage: 50V; ItemSubType: Ceramic 0402; Mounting: SMD
footprint C0402_H050_NP0 (SMD040210X05MM)
footprint C0402_H050_NP0_0.8 (SMD040210X05MM for BGA with 0.8mm pitch)
pins: 1, 2

## 1000pF x 50V, 0603, X7R
designator C?, comment 1000 pF  Package: 0603
CERCAP 0603 1000PF 50V X7R 10%; PartNumber: CL10B102KB8NNNC; Manufacturer: Samsung; AltManufacturer1: CCTC; Alternative1: TCC0603COG102J500CT; ItemType: Capacitor; Value: 1000 pF; Tolerance: ± 10 %; Voltage: 50V; Dielectric: X7R; ItemSubType: Ceramic 0603; Mounting: SMD
footprint C0603_H080_X7R (SMD060316X08MM)
pins: 1, 2

## 1200pF x 50V, 0402, X7R
designator C?, comment 1200 pF  Package: 0402
CERCAP 0402 1200PF 50V X7R 5%; PartNumber: CL05B122JB5NNNC; Manufacturer: Samsung; AltManufacturer1: CCTC; Alternative1: TCC0402X7R122K500AT; ItemType: Capacitor; Value: 1200 pF; Tolerance: ± 5 %; Voltage: 50V; Dielectric: X7R; ItemSubType: Ceramic 0402; Mounting: SMD
footprint C0402_H050_X7R (SMD040210X05MM)
footprint C0402_H050_X7R_0.8 (SMD040210X05MM for BGA with 0.8mm pitch)
pins: 1, 2

## 1200pF x 50V, 0603, NP0
designator C?, comment 1200 pF  Package: 0603
CERCAP 0603 1200PF 50V C0G/NP0 5%; PartNumber: CL10C122JB8NNNC; Manufacturer: Samsung; AltManufacturer1: CCTC; Dielectric: C0G(NP0); Alternative1: TCC0603COG122J500CT; ItemType: Capacitor; Value: 1200 pF; Tolerance: ± 5 %; Voltage: 50V; ItemSubType: Ceramic 0603; Mounting: SMD
footprint C0603_H080_NP0 (SMD060316X08MM)
pins: 1, 2

## 1800pF x 50V, 0603, NP0
designator C?, comment 1800 pF  Package: 0603
CERCAP 0603 1800PF 50V C0G/NP0 5%; PartNumber: CL10C182JB8NNNC; Manufacturer: Samsung; AltManufacturer1: Yageo; Dielectric: C0G(NP0); Alternative1: CC0603JRNPO9BN182; ItemType: Capacitor; Value: 1800 pF; Tolerance: ± 5 %; Voltage: 50V; ItemSubType: Ceramic 0603; Mounting: SMD
footprint C0603_H080_NP0 (SMD060316X08MM)
pins: 1, 2

## 1800uF x 35V, B41888E7
designator C?, comment 1800 uF  Package: 18x20
Aluminum electrolytic capacitors EPCOS B41888 Series; PartNumber: B41888E7188M000; AltManufacturer1: Panasonic; Tolerance: ± 20 %; Voltage: 35V; Alternative1: EEUFS1V182SB; Value: 1800 uF; Manufacturer: Epcos; ItemType: Capacitor; ItemSubType: Aluminum; Mounting: THT
footprint B41888E7188 (Epcos B41888, d=18mm, h=20.0mm, space 7.5mm)
pins: 1, 2

## 2200pF x 50V, 0603, X7R
designator C?, comment 2200 pF  Package: 0603
CERCAP 0603 2200PF 50V X7R 10%; PartNumber: CL10B222KB8NNNC; Manufacturer: Samsung; AltManufacturer1: CCTC; Alternative1: TCC0603COG222J500CT; ItemType: Capacitor; Value: 2200 pF; Tolerance: ± 10 %; Voltage: 50V; Dielectric: X7R; ItemSubType: Ceramic 0603; Mounting: SMD
footprint C0603_H080_X7R (SMD060316X08MM)
pins: 1, 2

## 3300pF x 50V, 0603, NP0
designator C?, comment 3300 pF  Package: 0603
CERCAP 0603 3300PF 50V C0G/NP0 5%; PartNumber: CL10C332JB8NNNC; Manufacturer: Samsung; AltManufacturer1: CCTC; Dielectric: C0G(NP0); Alternative1: TCC0603COG332J500CT; ItemType: Capacitor; Value: 3300 pF; Tolerance: ± 5 %; Voltage: 50V; ItemSubType: Ceramic 0603; Mounting: SMD
footprint C0603_H080_NP0 (SMD060316X08MM)
pins: 1, 2

## 3300pF x 400V, B32529C6
designator C?, comment 3300 pF  Package: MKT
Metallized Polyester Film Capacitor; PartNumber: B32529C6332J000; Manufacturer: Epcos; Tolerance: ± 5 %; Voltage: 400V; ItemSubType: Polyester Box; Value: 3300 pF; Dielectric: POLYESTER; ItemType: Capacitor; Mounting: THT
footprint B32529C6 (Epcos B32529, 2.5mmx6.5mmx7.3mm)
pins: 1, 2

## 4700pF x 1 kVDC, 1206, X7R
designator C?, comment 4700 pF  Package: 1206
CERCAP 1206 4700PF 1KV X7R 10%; PartNumber: GRM31BR73A472KW01L; Manufacturer: Murata; Voltage: 1 kVDC; ItemType: Capacitor; Value: 4700 pF; Tolerance: ± 10 %; Dielectric: X7R; ItemSubType: Ceramic 1206; Mounting: SMD
footprint C1206_H125_X7R (SMD120632X16MM)
pins: 1, 2

## 4700pF x 50V, 0603, NP0
designator C?, comment 4700pF  Package: 0603
CERCAP 0603 4700PF 50V C0G/NP0 5%; PartNumber: CL10C472JB8NNNC; Manufacturer: Samsung; AltManufacturer1: CCTC; Dielectric: C0G(NP0); Alternative1: TCC0603COG472J500CT; ItemType: Capacitor; Value: 4700pF; Tolerance: ± 5 %; Voltage: 50V; ItemSubType: Ceramic 0603; Mounting: SMD
footprint C0603_H080_NP0 (SMD060316X08MM)
pins: 1, 2